# Altium schematic symbol library FPC.SchLib: 2 symbols
Pins are listed as number, name and electrical type; pins without a type are passive.

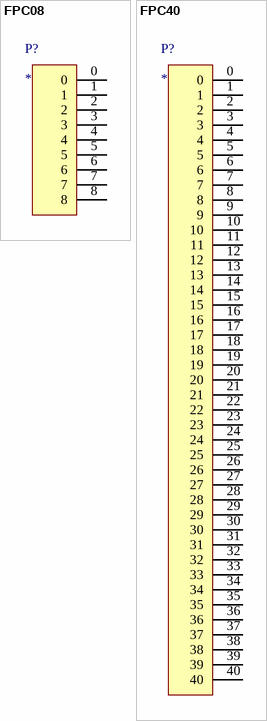
[diagram p0: symbols FPC08 to FPC40]

## FPC08
designator P?
08-pin FPC connector
footprint FPC08_H_DN_DRAWER
footprint FPC08_H_DN_FLIP
footprint FPC08_H_UP_DRAWER
footprint FPC08_V
pins: 0, 1, 2, 3, 4, 5, 6, 7, 8

## FPC40
designator P?
40-pin FPC connector
footprint FPC40_V
pins: 0, 1, 2, 3, 4, 5, 6, 7, 8, 9, 10, 11, 12, 13, 14, 15, 16, 17, 18, 19, 20, 21, 22, 23, 24, 25, 26, 27, 28, 29, 30, 31, 32, 33, 34, 35, 36, 37, 38, 39, 40